# EAGLE library part HR911105A (library MakBit)
HanRun HR911105A Single Port RJ45 Connector with Integrated Magnetics and LED for 10/100Base-T NIC Applications
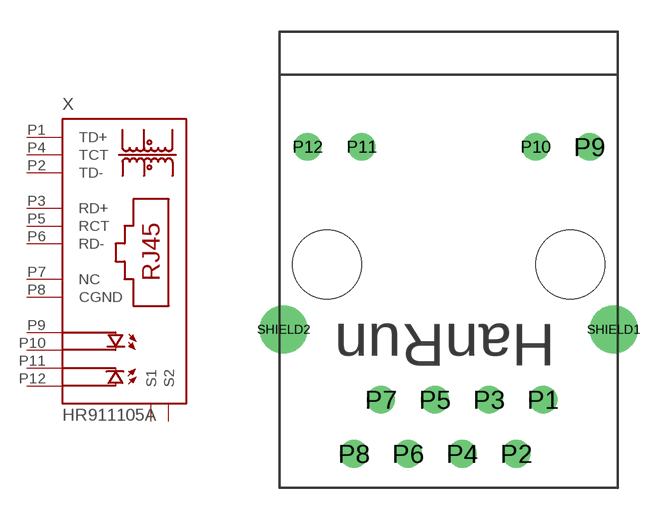
[diagram p12: symbol with the pads of RJ45; footprint RJ45]

Designator prefix X

## HR911105A  [RJ45]
P1  TD+  pas
P2  TD-  pas
P3  RD+  pas
P4  TCT  pas
P5  RCT  pas
P6  RD-  pas
P7  NC  pas
P8  CGND  pas
P9  GLED+  pas
P10  GLED-  pas
P11  YLED-  pas
P12  YLED+  pas
SHIELD1  S1  pas
SHIELD2  S2  pas

## Footprint RJ45 (pad centres in mm)
drill 0.8: P1 4.44,-6.57; P2 3.18,-9.11; P3 1.9,-6.57; P4 0.64,-9.11; P5 -0.64,-6.57; P6 -1.9,-9.11; P7 -3.18,-6.57; P8 -4.44,-9.11; P9 6.625,5.3; P10 4.085,5.3; P11 -4.085,5.3; P12 -6.625,5.3
drill 1.5: SHIELD1 7.745,-3.27; SHIELD2 -7.745,-3.27
hole 3.25 at -5.715,-0.22
hole 3.25 at 5.715,-0.22